# EAGLE library part CD74HCT244M96 (library CD74HCT244_v1)
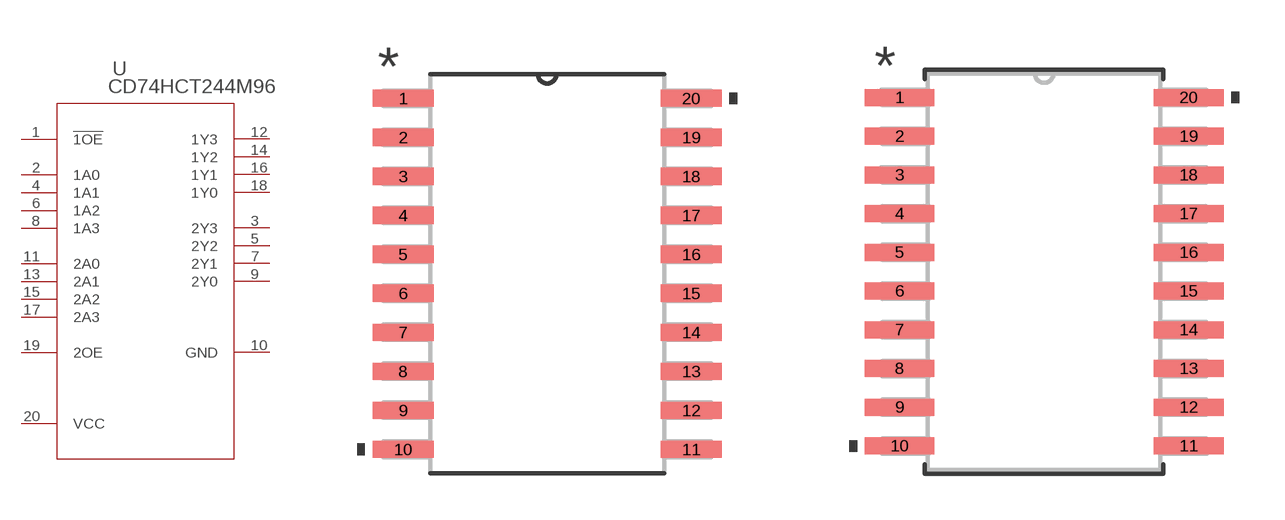
[diagram p0: symbol with the pads of DW20; footprints DW20, DW20-M]

Designator prefix U

## CD74HCT244M96 (DATASHEET_URL: http://www.ti.com/lit/gpn/CD74HCT244; DESCRIPTION: High Speed CMOS Logic Non-Inverting Octal Buffer/Line Drivers with 3-State Outputs; FAMILY_NAME: NON-INVERTING BUFFER/DRIVER; GENERIC_PART_NUMBER: CD74HCT244; INDUSTRY_STD_PKG_TYPE: SOIC; MANUFACTURER: Texas Instruments; PACKAGE_DESIGNATOR: DW; PIN_COUNT: 20)  [DW20]
1  !1OE  in
2  1A0  in
3  2Y3  out
4  1A1  in
5  2Y2  out
6  1A2  in
7  2Y1  out
8  1A3  in
9  2Y0  out
10  GND  pwr
11  2A0  in
12  1Y3  out
13  2A1  in
14  1Y2  out
15  2A2  in
16  1Y1  out
17  2A3  in
18  1Y0  out
19  2OE  in
20  VCC  pwr

## CD74HCT244M96DW20-M (DATASHEET_URL: http://www.ti.com/lit/gpn/CD74HCT244; DESCRIPTION: High Speed CMOS Logic Non-Inverting Octal Buffer/Line Drivers with 3-State Outputs; FAMILY_NAME: NON-INVERTING BUFFER/DRIVER; GENERIC_PART_NUMBER: CD74HCT244; INDUSTRY_STD_PKG_TYPE: SOIC; MANUFACTURER: Texas Instruments; PACKAGE_DESIGNATOR: DW; PIN_COUNT: 20)  [DW20-M]
Pads as for DW20

## CD74HCT244M96DW20-L (DATASHEET_URL: http://www.ti.com/lit/gpn/CD74HCT244; DESCRIPTION: High Speed CMOS Logic Non-Inverting Octal Buffer/Line Drivers with 3-State Outputs; FAMILY_NAME: NON-INVERTING BUFFER/DRIVER; GENERIC_PART_NUMBER: CD74HCT244; INDUSTRY_STD_PKG_TYPE: SOIC; MANUFACTURER: Texas Instruments; PACKAGE_DESIGNATOR: DW; PIN_COUNT: 20)  [DW20-L]
Pads as for DW20

## Footprint DW20 (pad centres in mm)
smd 1.981 x 0.559: 1 -4.686,5.715; 2 -4.686,4.445; 3 -4.686,3.175; 4 -4.686,1.905; 5 -4.686,0.635; 6 -4.686,-0.635; 7 -4.686,-1.905; 8 -4.686,-3.175; 9 -4.686,-4.445; 10 -4.686,-5.715; 11 4.686,-5.715; 12 4.686,-4.445; 13 4.686,-3.175; 14 4.686,-1.905; 15 4.686,-0.635; 16 4.686,0.635; 17 4.686,1.905; 18 4.686,3.175; 19 4.686,4.445; 20 4.686,5.715

## Footprint DW20-M (pad centres in mm)
smd 2.286 x 0.559: 1 -4.737,5.715; 2 -4.737,4.445; 3 -4.737,3.175; 4 -4.737,1.905; 5 -4.737,0.635; 6 -4.737,-0.635; 7 -4.737,-1.905; 8 -4.737,-3.175; 9 -4.737,-4.445; 10 -4.737,-5.715; 11 4.737,-5.715; 12 4.737,-4.445; 13 4.737,-3.175; 14 4.737,-1.905; 15 4.737,-0.635; 16 4.737,0.635; 17 4.737,1.905; 18 4.737,3.175; 19 4.737,4.445; 20 4.737,5.715

## Footprint DW20-L (pad centres in mm)
smd 1.676 x 0.508: 1 -4.636,5.715; 2 -4.636,4.445; 3 -4.636,3.175; 4 -4.636,1.905; 5 -4.636,0.635; 6 -4.636,-0.635; 7 -4.636,-1.905; 8 -4.636,-3.175; 9 -4.636,-4.445; 10 -4.636,-5.715; 11 4.636,-5.715; 12 4.636,-4.445; 13 4.636,-3.175; 14 4.636,-1.905; 15 4.636,-0.635; 16 4.636,0.635; 17 4.636,1.905; 18 4.636,3.175; 19 4.636,4.445; 20 4.636,5.715